# Altium schematic symbol library capacitor-0603.SchLib: 1 symbol
Pins are listed as number, name and electrical type; pins without a type are passive.

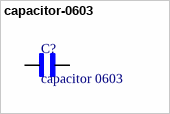
[diagram p0: symbol capacitor-0603]

## capacitor-0603
designator C?, comment capacitor 0603
Ceramic Capacitor X7R 0603 (1608 Metric)
footprint capacitor 0603 (Ceramic Capacitor X7R 0603 (1608 Metric))
pins: 1, 2